# Altium footprint library CustomLib.PcbLib: 1 footprints
Each footprint in its own frame and in the unit in brackets; x right, y up, seen from the top. Pads: shape width x height; smd on the part's side, far side on the other; paste and mask are expansions set on the pad; w line width, h text height; cw(c..) or ccw(c..) is an arc to the next point about the centre after c.
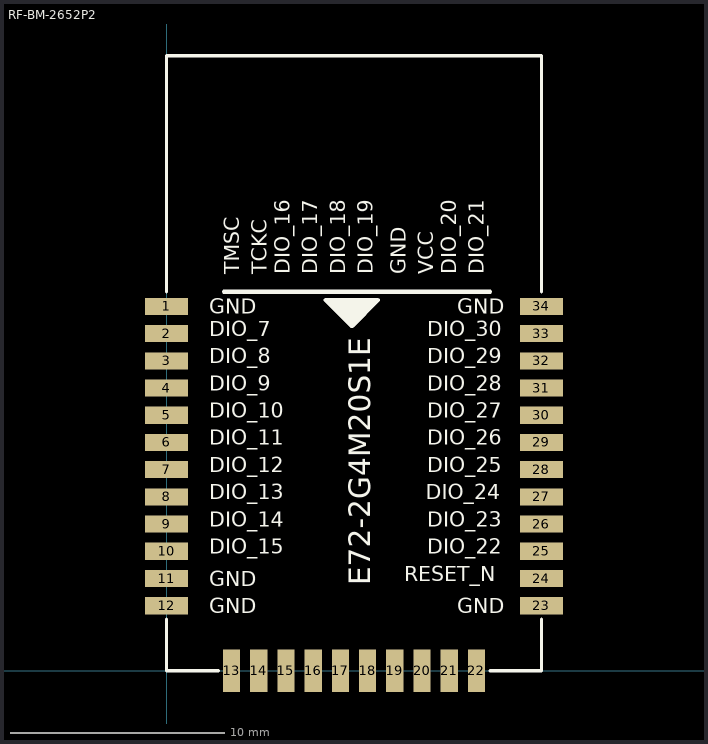
[diagram p0: the footprint, top view; thin cyan lines are the x and y axes]

## RF-BM-2652P2 [mm]
height 1.3
pads (34):
  rect 2x0.8 smd: 1(0,17.005) 2(0,15.735) 3(0,14.465) 4(0,13.195) 5(0,11.925) 6(0,10.655) 7(0,9.385) 8(0,8.115) 9(0,6.845) 10(0,5.575) 11(0,4.305) 12(0,3.035) 23(17.5,3.035) 24(17.5,4.305) 25(17.5,5.575) 26(17.5,6.845) 27(17.5,8.115) 28(17.5,9.385) 29(17.5,10.655) 30(17.5,11.925) 31(17.5,13.195) 32(17.5,14.465) 33(17.5,15.735) 34(17.5,17.005)
  rect 0.8x2 smd: 13(3.035,0) 14(4.305,0) 15(5.575,0) 16(6.845,0) 17(8.115,0) 18(9.385,0) 19(10.655,0) 20(11.925,0) 21(13.195,0) 22(14.465,0)
Top Overlay:
  lines w0.152: 0,2.413 0,0 2.413,0 ; 0,17.679 0,28.7 17.5,28.7 17.5,17.679 ; 15.113,0 17.5,0 17.5,2.413
  lines w0.2: 2.683,17.691 15.099,17.691 ; 7.965,17.3 7.43,17.3 8.63,16.1 8.665,16.1 ; 8.365,16.8 8.365,16.9 ; 8.365,16.893 8.512,16.747 ; 8.518,16.853 8.518,16.447 ; 8.365,16.6 8.512,16.747 ; 8.365,16.6 8.265,16.7 8.265,16.8 8.365,16.9 ; 8.365,16.6 8.518,16.447 ; 8.365,16.6 8.518,16.447 ; 8.365,16.9 8.065,16.9 7.865,17.1 8.065,17.1 9.165,17.1 9.265,17.2 9.565,17.2 8.814,16.449 ; 8.365,16.9 9.265,16.9 9.365,17 9.218,17 8.965,16.747 ; 8.512,16.747 8.965,16.747 ; 8.512,16.747 8.517,16.747 8.814,16.449 ; 8.518,16.447 8.665,16.447 ; 8.665,16.1 9.865,17.3 7.665,17.3 8.665,16.3 ; 8.665,16.1 8.665,16.3 ; 8.665,16.1 8.814,16.249 8.814,16.449 ; 8.665,16.3 8.665,16.447 ; 8.665,16.3 8.665,16.447 ; 8.665,16.447 8.965,16.747 ; 8.814,16.449 8.965,16.6 8.965,16.747
  text "DIO_30" at 12.166,15.618 h0.7
  text "DIO_24" at 12.1,7.998 h0.7
  text "DIO_27" at 12.166,11.808 h0.7
  text "DIO_29" at 12.166,14.348 h0.7
  text "DIO_22" at 12.166,5.458 h0.7
  text "RESET_N" at 11.1,4.188 h0.7
  text "GND" at 13.566,16.655 h0.7
  text "DIO_28" at 12.166,13.078 h0.7
  text "DIO_26" at 12.166,10.538 h0.7
  text "DIO_25" at 12.166,9.268 h0.7
  text "DIO_23" at 12.166,6.728 h0.7
  text "GND" at 13.566,2.685 h0.7
  text "DIO_7" at 2,15.618 h0.7
  text "DIO_8" at 2,14.348 h0.7
  text "DIO_10" at 2,11.808 h0.7
  text "DIO_13" at 2,7.998 h0.7
  text "DIO_15" at 2,5.458 h0.7
  text "GND" at 2,3.955 h0.7
  text "GND" at 2,16.655 h0.7
  text "DIO_9" at 2,13.078 h0.7
  text "DIO_11" at 2,10.538 h0.7
  text "DIO_12" at 2,9.268 h0.7
  text "DIO_14" at 2,6.728 h0.7
  text "GND" at 2,2.685 h0.7
  text "E72-2G4M20S1E" at 9.5,4 h1
  text "DIO_21" at 14.815,18.509 h0.7
  text "VCC" at 12.456,18.509 h0.7
  text "GND" at 11.161,18.509 h0.7
  text "DIO_18" at 8.335,18.509 h0.7
  text "TCKC" at 4.681,18.509 h0.7
  text "DIO_20" at 13.519,18.509 h0.7
  text "TMSC" at 3.385,18.509 h0.7
  text "DIO_16" at 5.744,18.509 h0.7
  text "DIO_17" at 7.04,18.509 h0.7
  text "DIO_19" at 9.631,18.509 h0.7